# Altium footprint library ds1021_1x2sf11_b.PcbLib: 1 footprints
Each footprint in its own frame and in the unit in brackets; x right, y up, seen from the top. Pads: shape width x height; smd on the part's side, far side on the other; paste and mask are expansions set on the pad; w line width, h text height; cw(c..) or ccw(c..) is an arc to the next point about the centre after c.
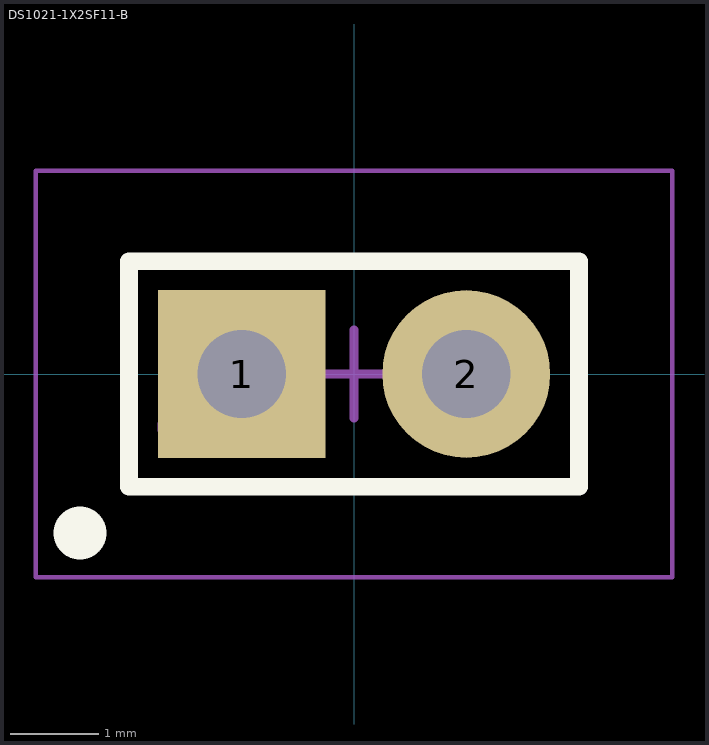
[diagram p0: the footprint, top view; thin cyan lines are the x and y axes]

## DS1021-1X2SF11-B [mm] "PLS 2 Pins 2,54mm Plug Header V/T Type"
height 8.6
pads (2):
  rect 1.9x1.9 hole 1: 1(-1.27,0)
  round 1.9 hole 1: 2(1.27,0)
Top Overlay:
  circle w0.6: c-3.1,-1.8 r0.001
  lines w0.2: -2.545,1.275 -2.545,-1.275 2.54,-1.275 ; -2.54,1.275 2.545,1.275 2.545,-1.275
Top Comment:
  text ".Comment" at 1,2.4 h1.2
Top Designator:
  text ".Designator" at -0.3,2.4 h1.2
Top Component Outline:
  circle w0.35: c-1.9,-0.6 r0.15
  lines w0.1: -2.545,-1.275 2.545,-1.275 2.545,1.275 -2.545,1.275 -2.545,-1.275
Top Courtyard (Mech15):
  lines w0.05: -3.6,-2.3 3.6,-2.3 3.6,2.3 -3.6,2.3 -3.6,-2.3
  lines w0.1: -0.5,0 0.5,0 ; 0,-0.5 0,0.5
3D body "DS1021-1x1SF11-B.STEP": height 8.6, standoff -3, extent -2.54,-1.27 0,1.27
3D body "DS1021-1x1SF11-B.STEP": height 8.6, standoff -3, extent 0,-1.27 2.54,1.27